# Altium footprint library LED_WS2812B-B.PcbLib: 1 footprints
Each footprint in its own frame and in the unit in brackets; x right, y up, seen from the top. Pads: shape width x height; smd on the part's side, far side on the other; paste and mask are expansions set on the pad; w line width, h text height; cw(c..) or ccw(c..) is an arc to the next point about the centre after c.
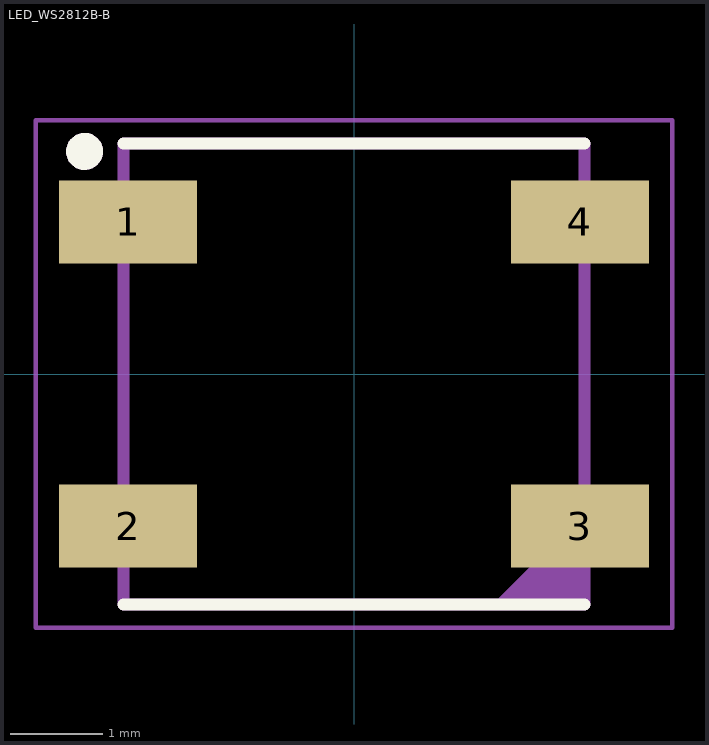
[diagram p0: the footprint, top view; thin cyan lines are the x and y axes]

## LED_WS2812B-B [mm]
pads (4):
  rect 1.5x0.9 smd: 1(-2.45,1.65) 2(-2.45,-1.65) 3(2.45,-1.65) 4(2.45,1.65)
Top Overlay:
  circle w0.2: c-2.921,2.413 r0.1
  lines w0.127: -2.5,-2.5 2.5,-2.5 ; -2.5,2.5 2.5,2.5
Mechanical 13:
  circle w0.2: c-2.921,2.413 r0.1
  region: 2.5,-2.5 1.5,-2.5 2.5,-1.5
  lines w0.127: -2.5,-2.5 -2.5,2.5 2.5,2.5 2.5,-2.5 -2.5,-2.5
Mechanical 15:
  lines w0.05: -3.45,-2.75 3.45,-2.75 3.45,2.75 -3.45,2.75 -3.45,-2.75
3D body "WS2812_RGB_LED_updated.stp": height 1.7, standoff 0, extent -2.675,-2.475 2.675,2.475
3D body: height 0.4, standoff -0.4, extent -1.016,0.635 -1.016,0.635